# Altium footprint library PASSIVE_THD.PCBLIB: 248 footprints (part 5 of 16)
Each footprint in its own frame and in the unit in brackets; x right, y up, seen from the top. Pads: shape width x height; smd on the part's side, far side on the other; paste and mask are expansions set on the pad; w line width, h text height; cw(c..) or ccw(c..) is an arc to the next point about the centre after c.
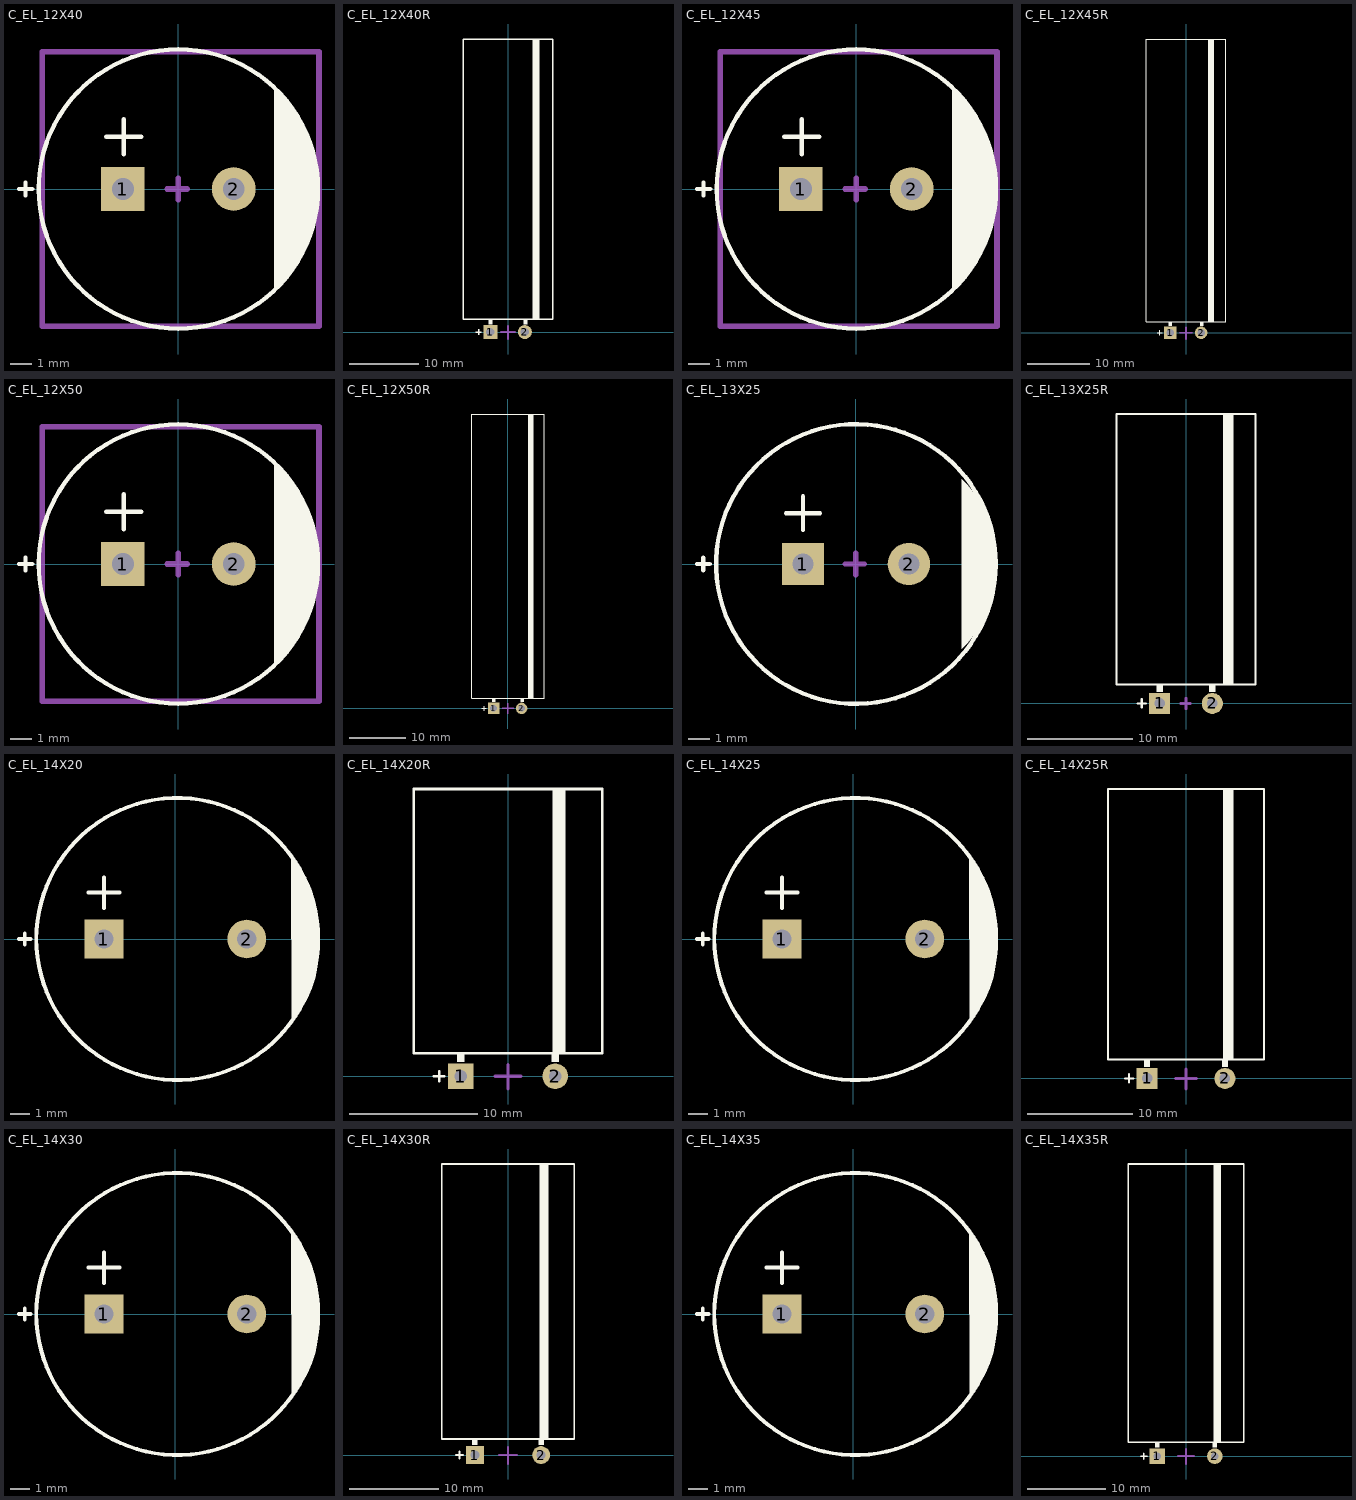
[diagram p4: the footprints below, top view; thin cyan lines are the x and y axes]

## C_EL_12X40 [mm] "Capacitor Electrolythic, D12.5X40H pitch: 5mm"
height 25
pads (2):
  rect 2x2 hole 1: 1(-2.54,0)
  round 2 hole 1: 2(2.54,0)
TopOverlay:
  circle w0.2: c0,0 r6.4
  region: 4.4,-4.7 4.631,-4.469 5.045,-3.964 5.408,-3.421 5.716,-2.845 5.966,-2.242 6.155,-1.617 6.283,-0.976 6.347,-0.327 6.347,0 4.4,0
  region: 4.4,4.7 4.631,4.469 5.045,3.964 5.408,3.421 5.716,2.845 5.966,2.242 6.155,1.617 6.283,0.976 6.347,0.327 6.347,0 4.4,0
  lines w0.2: -7.3,0 -6.7,0 ; -7,-0.3 -7,0.3 ; -3.3,2.4 -1.7,2.4 ; -2.5,1.6 -2.5,3.2
Mechanical13:
  lines w0.254: -0.5,0 0.4,0 ; 0,-0.5 0,0.5 ; -6.225,-6.3 -6.225,6.3 6.45,6.3 6.45,-6.3 -6.225,-6.3
3D body "cap_el_vertical_d12.5_h40_p5_w0.6.stp": height 40.01, standoff -3, extent -6.25,-6.234 6.251,6.236

## C_EL_12X40R [mm] "Capacitor Electrolythic, D12.5X40H pitch: 5mm"
height 40
pads (2):
  rect 2x2 hole 1.2: 1(-2.54,0)
  round 2 hole 1.2: 2(2.413,0)
TopOverlay:
  rectangle: 3.5,1.8 4.5,42
  rectangle: -2.8,1.1 -2.2,1.8
  region: 2.8,1.8 2.2,1.8 2.2,1.1 2.8,1.1
  lines w0.2: -4.6,0 -3.8,0 ; -4.2,-0.4 -4.2,0.4 ; -6.4,1.8 6.4,1.8 6.4,42 -6.4,42 -6.4,1.8
Mechanical13:
  lines w0.254: -1,0 1,0 ; 0,-1 0,0.9
3D body "cap_el_horizontal_d12.5_h40_p5_w0.6.stp": height 12.59, standoff -3, extent -6.25,-0.3 6.251,41.81

## C_EL_12X45 [mm] "Capacitor Electrolythic, D12.5X45H pitch: 5mm"
height 25
pads (2):
  rect 2x2 hole 1: 1(-2.54,0)
  round 2 hole 1: 2(2.54,0)
TopOverlay:
  circle w0.2: c0,0 r6.4
  region: 4.4,-4.7 4.631,-4.469 5.045,-3.964 5.408,-3.421 5.716,-2.845 5.966,-2.242 6.155,-1.617 6.283,-0.976 6.347,-0.327 6.347,0 4.4,0
  region: 4.4,4.7 4.631,4.469 5.045,3.964 5.408,3.421 5.716,2.845 5.966,2.242 6.155,1.617 6.283,0.976 6.347,0.327 6.347,0 4.4,0
  lines w0.2: -7.3,0 -6.7,0 ; -7,-0.3 -7,0.3 ; -3.3,2.4 -1.7,2.4 ; -2.5,1.6 -2.5,3.2
Mechanical13:
  lines w0.254: -0.5,0 0.4,0 ; 0,-0.5 0,0.5 ; -6.225,-6.3 6.45,-6.3 6.45,6.3 -6.225,6.3 -6.225,-6.3
3D body "cap_el_vertical_d12.5_h45_p5_w0.6.stp": height 45.01, standoff -3, extent -6.25,-6.25 6.26,6.25

## C_EL_12X45R [mm] "Capacitor Electrolythic, D12.5X45H pitch: 5mm"
height 40
pads (2):
  rect 2x2 hole 1.2: 1(-2.54,0)
  round 2 hole 1.2: 2(2.413,0)
TopOverlay:
  rectangle: 3.5,1.8 4.5,47
  rectangle: -2.8,1.1 -2.2,1.8
  region: 2.8,1.8 2.2,1.8 2.2,1.1 2.8,1.1
  lines w0.2: -4.6,0 -3.8,0 ; -4.2,-0.4 -4.2,0.4 ; -6.4,1.8 6.4,1.8 6.4,47 -6.4,47 -6.4,1.8
Mechanical13:
  lines w0.254: -1,0 1,0 ; 0,-1 0,0.9
3D body "cap_el_horizontal_d12.5_h45_p5_w0.6.stp": height 12.6, standoff -3, extent -6.242,-0.427 6.252,46.683

## C_EL_12X50 [mm] "Capacitor Electrolythic, D12.5X50H pitch: 5mm"
height 25
pads (2):
  rect 2x2 hole 1: 1(-2.54,0)
  round 2 hole 1: 2(2.54,0)
TopOverlay:
  circle w0.2: c0,0 r6.4
  region: 4.4,4.7 4.631,4.469 5.045,3.964 5.408,3.421 5.716,2.845 5.966,2.242 6.155,1.617 6.283,0.976 6.347,0.327 6.347,0 4.4,0
  region: 4.4,-4.7 4.631,-4.469 5.045,-3.964 5.408,-3.421 5.716,-2.845 5.966,-2.242 6.155,-1.617 6.283,-0.976 6.347,-0.327 6.347,0 4.4,0
  lines w0.2: -7.3,0 -6.7,0 ; -7,-0.3 -7,0.3 ; -3.3,2.4 -1.7,2.4 ; -2.5,1.6 -2.5,3.2
Mechanical13:
  lines w0.254: -0.5,0 0.4,0 ; 0,-0.5 0,0.5 ; -6.225,-6.3 6.45,-6.3 6.45,6.3 -6.225,6.3 -6.225,-6.3
3D body "cap_el_vertical_d12.5_h50_p5_w0.6.stp": height 50.01, standoff -3, extent -6.24,-6.245 6.26,6.245

## C_EL_12X50R [mm] "Capacitor Electrolythic, D12.5X50H pitch: 5mm"
height 40
pads (2):
  rect 2x2 hole 1.2: 1(-2.54,0)
  round 2 hole 1.2: 2(2.413,0)
TopOverlay:
  rectangle: 3.5,1.8 4.5,52
  rectangle: -2.8,1.1 -2.2,1.8
  region: 2.8,1.8 2.2,1.8 2.2,1.1 2.8,1.1
  lines w0.2: -4.6,0 -3.8,0 ; -4.2,-0.4 -4.2,0.4 ; -6.4,1.8 6.4,1.8 6.4,52 -6.4,52 -6.4,1.8
Mechanical13:
  lines w0.254: -1,0 1,0 ; 0,-1 0,0.9
3D body "cap_el_horizontal_d12.5_h50_p5_w0.6.stp": height 12.6, standoff -3, extent -6.24,-0.3 6.26,51.81

## C_EL_13X25 [mm] "Capacitor Electrolythic, D13X25H pitch: 5mm"
height 25
pads (2):
  rect 2x2 hole 1: 1(-2.5,0)
  round 2 hole 1: 2(2.5,0)
TopOverlay:
  circle w0.2: c0,0 r6.6
  region: 5,4 5,-4 5.262,-3.738 5.714,-3.15 6.084,-2.507 6.368,-1.822 6.56,-1.106 6.657,-0.371 6.657,0.371 6.56,1.106 6.368,1.822 6.084,2.507 5.714,3.149 5.262,3.738
  lines w0.2: -7.5,0 -6.9,0 ; -7.2,-0.3 -7.2,0.3 ; -3.3,2.4 -1.7,2.4 ; -2.5,1.6 -2.5,3.2
Mechanical13:
  lines w0.254: -0.5,0 0.4,0 ; 0,-0.5 0,0.5
3D body "User Library-Cap-EL(13x25-5).STEP": height 25.2, standoff -3.1, extent -6.5,-6.5 6.502,6.5

## C_EL_13X25R [mm] "Capacitor Electrolythic, D13X25H pitch: 5mm"
height 25
pads (2):
  rect 2x2 hole 1: 1(-2.5,0)
  round 2 hole 1: 2(2.5,0)
TopOverlay:
  region: 2.8,1.8 2.2,1.8 2.2,1.1 2.8,1.1
  rectangle: -2.8,1.1 -2.2,1.8
  rectangle: 3.5,1.8 4.5,27.5
  lines w0.2: -4.6,0 -3.8,0 ; -4.2,-0.4 -4.2,0.4 ; -6.6,1.8 -6.6,27.5 6.6,27.5 6.6,1.8 -6.6,1.8
Mechanical13:
  lines w0.254: -0.5,0 0.4,0 ; 0,-0.5 0,0.5
3D body "ElCapRA-5.0-13x25.step": height 13.09, standoff -3, extent -6.501,-0.298 6.49,27.401

## C_EL_14X20 [mm] "Capacitor Electrolythic, D14.5X20H pitch: 7.4mm"
height 26
pads (2):
  rect 2x2 hole 1: 1(-3.7,0)
  round 2 hole 1: 2(3.7,0)
TopOverlay:
  circle w0.2: c0.096,0 r7.3
  region: 6,4.3 6.188,4.079 6.52,3.603 6.804,3.097 7.036,2.565 7.215,2.013 7.34,1.446 7.408,0.87 7.419,0.289 7.396,0 6,0
  region: 6.014,-4.294 6.203,-4.073 6.534,-3.597 6.818,-3.091 7.05,-2.559 7.23,-2.007 7.354,-1.44 7.422,-0.864 7.433,-0.283 7.41,0.006 6.014,0.006
  lines w0.2: -8.1,0 -7.5,0 ; -7.8,-0.3 -7.8,0.3 ; -4.5,2.4 -2.9,2.4 ; -3.7,1.6 -3.7,3.2
3D body "cap_el_vertical_d14.5_h20_p7.5_w0.8.stp": height 20.01, standoff -3, extent -7.25,-7.238 7.26,7.238

## C_EL_14X20R [mm] "Capacitor Electrolythic, D14.5X20H pitch: 7.4mm"
height 40
pads (2):
  rect 2x2 hole 1: 1(-3.7,0)
  round 2 hole 1: 2(3.7,0)
TopOverlay:
  region: 4,1.8 3.4,1.8 3.4,1.1 4,1.1
  rectangle: -4,1.1 -3.4,1.8
  rectangle: 3.5,1.8 4.5,22.5
  lines w0.2: -5.8,0 -5,0 ; -5.4,-0.4 -5.4,0.4 ; -7.4,1.8 -7.4,22.5 7.4,22.5 7.4,1.8 -7.4,1.8
Mechanical13:
  lines w0.254: -1,0 1,0 ; 0,-1 0,0.9
3D body "cap_el_horizontal_d14.5_h20_p7.5_w0.8.stp": height 14.59, standoff -3, extent -7.25,-0.4 7.26,22.41

## C_EL_14X25 [mm] "Capacitor Electrolythic, D14.5X25H pitch: 7.4mm"
height 26
pads (2):
  rect 2x2 hole 1: 1(-3.7,0)
  round 2 hole 1: 2(3.7,0)
TopOverlay:
  circle w0.2: c0.096,0 r7.3
  region: 6.014,-4.294 6.203,-4.073 6.534,-3.597 6.818,-3.091 7.05,-2.559 7.23,-2.007 7.354,-1.44 7.422,-0.864 7.433,-0.283 7.41,0.006 6.014,0.006
  region: 6,4.3 6.188,4.079 6.52,3.603 6.804,3.097 7.036,2.565 7.215,2.013 7.34,1.446 7.408,0.87 7.419,0.289 7.396,0 6,0
  lines w0.2: -8.1,0 -7.5,0 ; -7.8,-0.3 -7.8,0.3 ; -4.5,2.4 -2.9,2.4 ; -3.7,1.6 -3.7,3.2
3D body "cap_el_vertical_d14.5_h25_p7.5_w0.8.stp": height 25.01, standoff -3, extent -7.24,-7.249 7.26,7.249

## C_EL_14X25R [mm] "Capacitor Electrolythic, D14.5X25H pitch: 7.4mm"
height 40
pads (2):
  rect 2x2 hole 1: 1(-3.7,0)
  round 2 hole 1: 2(3.7,0)
TopOverlay:
  region: 4,1.8 3.4,1.8 3.4,1.1 4,1.1
  rectangle: -4,1.1 -3.4,1.8
  rectangle: 3.5,1.8 4.5,27.5
  lines w0.2: -5.8,0 -5,0 ; -5.4,-0.4 -5.4,0.4 ; -7.4,1.8 -7.4,27.5 7.4,27.5 7.4,1.8 -7.4,1.8
Mechanical13:
  lines w0.254: -1,0 1,0 ; 0,-1 0,0.9
3D body "cap_el_horizontal_d14.5_h25_p7.5_w0.8.stp": height 14.6, standoff -3, extent -7.24,-0.4 7.26,27.41

## C_EL_14X30 [mm] "Capacitor Electrolythic, D14.5X30H pitch: 7.4mm"
height 26
pads (2):
  rect 2x2 hole 1: 1(-3.7,0)
  round 2 hole 1: 2(3.7,0)
TopOverlay:
  circle w0.2: c0.096,0 r7.3
  region: 6,4.3 6.188,4.079 6.52,3.603 6.804,3.097 7.036,2.565 7.215,2.013 7.34,1.446 7.408,0.87 7.419,0.289 7.396,0 6,0
  region: 6.014,-4.294 6.203,-4.073 6.534,-3.597 6.818,-3.091 7.05,-2.559 7.23,-2.007 7.354,-1.44 7.422,-0.864 7.433,-0.283 7.41,0.006 6.014,0.006
  lines w0.2: -8.1,0 -7.5,0 ; -7.8,-0.3 -7.8,0.3 ; -4.5,2.4 -2.9,2.4 ; -3.7,1.6 -3.7,3.2
3D body "cap_el_vertical_d14.5_h30_p7.5_w0.8.stp": height 30.01, standoff -3, extent -7.25,-7.248 7.26,7.248

## C_EL_14X30R [mm] "Capacitor Electrolythic, D14.5X30H pitch: 7.4mm"
height 40
pads (2):
  rect 2x2 hole 1: 1(-3.7,0)
  round 2 hole 1: 2(3.7,0)
TopOverlay:
  region: 4,1.8 3.4,1.8 3.4,1.1 4,1.1
  rectangle: -4,1.1 -3.4,1.8
  rectangle: 3.5,1.8 4.5,32.5
  lines w0.2: -5.8,0 -5,0 ; -5.4,-0.4 -5.4,0.4 ; -7.4,1.8 -7.4,32.5 7.4,32.5 7.4,1.8 -7.4,1.8
Mechanical13:
  lines w0.254: -1,0 1,0 ; 0,-1 0,0.9
3D body "cap_el_horizontal_d14.5_h30_p7.5_w0.8.stp": height 14.6, standoff -3, extent -7.25,-0.4 7.26,32.41

## C_EL_14X35 [mm] "Capacitor Electrolythic, D14.5X35H pitch: 7.4mm"
height 26
pads (2):
  rect 2x2 hole 1: 1(-3.7,0)
  round 2 hole 1: 2(3.7,0)
TopOverlay:
  circle w0.2: c0.096,0 r7.3
  region: 6,4.3 6.188,4.079 6.52,3.603 6.804,3.097 7.036,2.565 7.215,2.013 7.34,1.446 7.408,0.87 7.419,0.289 7.396,0 6,0
  region: 6.014,-4.294 6.203,-4.073 6.534,-3.597 6.818,-3.091 7.05,-2.559 7.23,-2.007 7.354,-1.44 7.422,-0.864 7.433,-0.283 7.41,0.006 6.014,0.006
  lines w0.2: -8.1,0 -7.5,0 ; -7.8,-0.3 -7.8,0.3 ; -4.5,2.4 -2.9,2.4 ; -3.7,1.6 -3.7,3.2
3D body "cap_el_vertical_d14.5_h35_p7.5_w0.8.stp": height 35.01, standoff -3, extent -7.24,-7.234 7.25,7.234

## C_EL_14X35R [mm] "Capacitor Electrolythic, D14.5X35H pitch: 7.4mm"
height 40
pads (2):
  rect 2x2 hole 1: 1(-3.7,0)
  round 2 hole 1: 2(3.7,0)
TopOverlay:
  rectangle: 3.5,1.8 4.5,37.5
  rectangle: -4,1.1 -3.4,1.8
  region: 4,1.8 3.4,1.8 3.4,1.1 4,1.1
  lines w0.2: -5.8,0 -5,0 ; -5.4,-0.4 -5.4,0.4 ; -7.4,1.8 7.4,1.8 7.4,37.5 -7.4,37.5 -7.4,1.8
Mechanical13:
  lines w0.254: -1,0 1,0 ; 0,-1 0,0.9
3D body "cap_el_horizontal_d14.5_h35_p7.5_w0.8.stp": height 14.58, standoff -3, extent -7.24,-0.4 7.25,37.41